# Altium schematic symbol library AD_Connectors.SchLib: 81 symbols
Pins are listed as number, name and electrical type; pins without a type are passive.

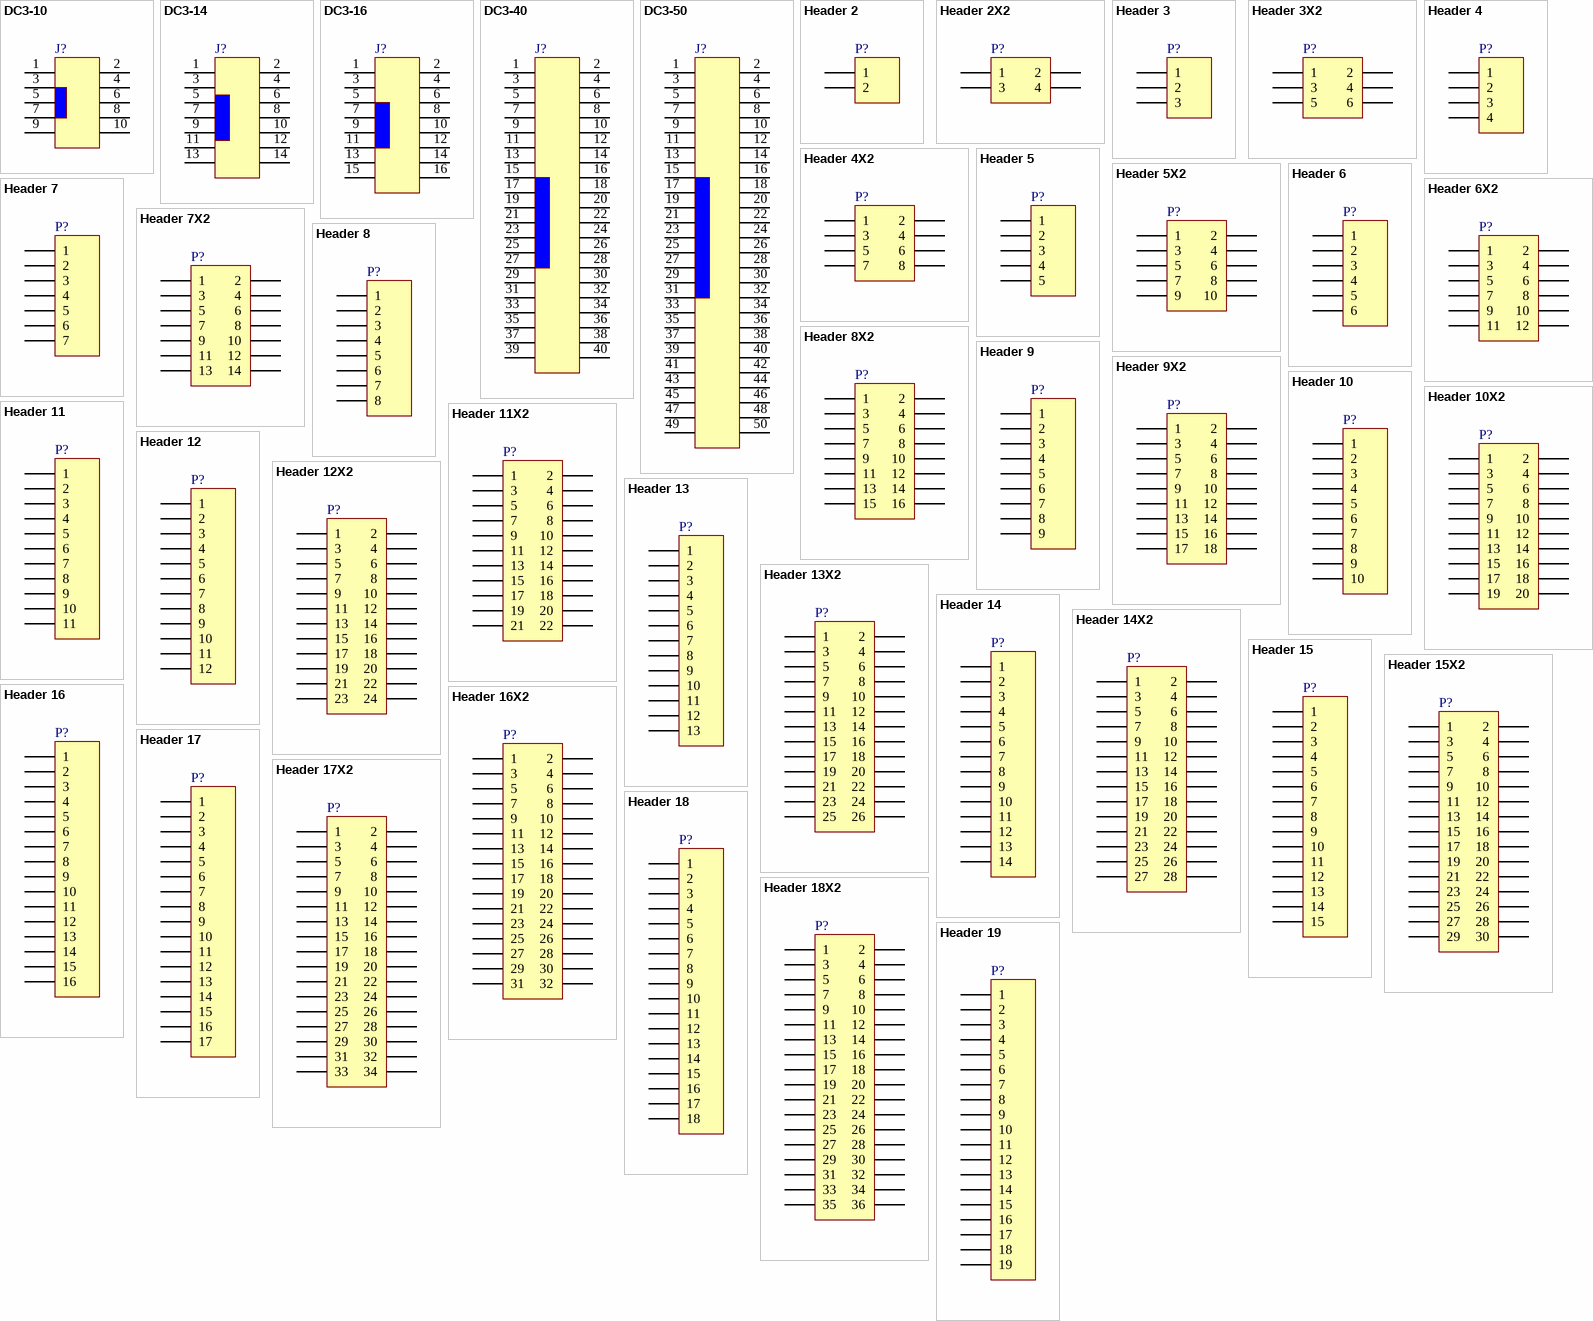
[diagram p0: symbols DC3-10 to Header 19]

## DC3-10
designator J?
简易牛角座, 10pins
footprint DC3-2.54-10 (简易牛角座, DIP, pitch 2.54, 10pins)
pins: 1, 2, 3, 4, 5, 6, 7, 8, 9, 10

## DC3-14
designator J?
简易牛角座, 14pins
footprint DC3-2.54-14 (简易牛角座, DIP, pitch 2.54, 14pins)
pins: 1, 2, 3, 4, 5, 6, 7, 8, 9, 10, 11, 12, 13, 14

## DC3-16
designator J?
简易牛角座, 16pins
footprint DC3-2.54-16 (简易牛角座, DIP, pitch 2.54, 16pins)
pins: 1, 2, 3, 4, 5, 6, 7, 8, 9, 10, 11, 12, 13, 14, 15, 16

## DC3-40
designator J?
简易牛角座, 40pins
footprint DC3-2.54-40 (简易牛角座, DIP, pitch 2.54, 40pins)
pins: 1, 2, 3, 4, 5, 6, 7, 8, 9, 10, 11, 12, 13, 14, 15, 16, 17, 18, 19, 20, 21, 22, 23, 24, 25, 26, 27, 28, 29, 30, 31, 32, 33, 34, 35, 36, 37, 38, 39, 40

## DC3-50
designator J?
简易牛角座, 50pins
footprint DC3-2.54-50 (简易牛角座, DIP, pitch 2.54, 50pins)
pins: 1, 2, 3, 4, 5, 6, 7, 8, 9, 10, 11, 12, 13, 14, 15, 16, 17, 18, 19, 20, 21, 22, 23, 24, 25, 26, 27, 28, 29, 30, 31, 32, 33, 34, 35, 36, 37, 38, 39, 40, 41, 42, 43, 44, 45, 46, 47, 48, 49, 50

## Header 2
designator P?
Header, 2-Pin; LatestRevisionDate: 17-Jul-2002; LatestRevisionNote: Re-released for DXP Platform.; Publisher: Altium Limited
footprint HDR1X2 (Connector; Header; 2 Position)
pins: 1, 2

## Header 2X2
designator P?
Header, 2-Pin, Dual row; LatestRevisionDate: 17-Jul-2002; LatestRevisionNote: Re-released for DXP Platform.; Publisher: Altium Limited
footprint HDR2X2 (Connector; Header; 2x2 Position)
pins: 1, 2, 3, 4

## Header 3
designator P?
Header, 3-Pin; LatestRevisionDate: 17-Jul-2002; LatestRevisionNote: Re-released for DXP Platform.; Publisher: Altium Limited
footprint HDR1X3 (Connector; Header; 3 Position)
pins: 1, 2, 3

## Header 3X2
designator P?
Header, 3-Pin, Dual row; LatestRevisionDate: 17-Jul-2002; LatestRevisionNote: Re-released for DXP Platform.; Publisher: Altium Limited
footprint HDR2X3 (Connector; Header; 3x2 Position)
pins: 1, 2, 3, 4, 5, 6

## Header 4
designator P?
Header, 4-Pin; LatestRevisionDate: 17-Jul-2002; LatestRevisionNote: Re-released for DXP Platform.; Publisher: Altium Limited
footprint HDR1X4 (Connector; Header; 4 Position)
pins: 1, 2, 3, 4

## Header 4X2
designator P?
Header, 4-Pin, Dual row; LatestRevisionDate: 17-Jul-2002; LatestRevisionNote: Re-released for DXP Platform.; Publisher: Altium Limited
footprint HDR2X4 (Connector; Header; 4x2 Position)
pins: 1, 2, 3, 4, 5, 6, 7, 8

## Header 5
designator P?
Header, 5-Pin; LatestRevisionDate: 17-Jul-2002; LatestRevisionNote: Re-released for DXP Platform.; Publisher: Altium Limited
footprint HDR1X5 (Connector; Header; 5 Position)
pins: 1, 2, 3, 4, 5

## Header 5X2
designator P?
Header, 5-Pin, Dual row; LatestRevisionDate: 17-Jul-2002; LatestRevisionNote: Re-released for DXP Platform.; Publisher: Altium Limited
footprint HDR2X5 (Connector; Header; 5x2 Position)
pins: 1, 2, 3, 4, 5, 6, 7, 8, 9, 10

## Header 6
designator P?
Header, 6-Pin; LatestRevisionDate: 17-Jul-2002; LatestRevisionNote: Re-released for DXP Platform.; Publisher: Altium Limited
footprint HDR1X6 (Connector; Header; 6 Position)
pins: 1, 2, 3, 4, 5, 6

## Header 6X2
designator P?
Header, 6-Pin, Dual row; LatestRevisionDate: 17-Jul-2002; LatestRevisionNote: Re-released for DXP Platform.; Publisher: Altium Limited
footprint HDR2X6 (Connector; Header; 6x2 Position)
pins: 1, 2, 3, 4, 5, 6, 7, 8, 9, 10, 11, 12

## Header 7
designator P?
Header, 7-Pin; LatestRevisionDate: 17-Jul-2002; LatestRevisionNote: Re-released for DXP Platform.; Publisher: Altium Limited
footprint HDR1X7 (Connector; Header; 7 Position)
pins: 1, 2, 3, 4, 5, 6, 7

## Header 7X2
designator P?
Header, 7-Pin, Dual row; LatestRevisionDate: 17-Jul-2002; LatestRevisionNote: Re-released for DXP Platform.; Publisher: Altium Limited
footprint HDR2X7 (Connector; Header; 7x2 Position)
pins: 1, 2, 3, 4, 5, 6, 7, 8, 9, 10, 11, 12, 13, 14

## Header 8
designator P?
Header, 8-Pin; LatestRevisionDate: 17-Jul-2002; LatestRevisionNote: Re-released for DXP Platform.; Publisher: Altium Limited
footprint HDR1X8 (Connector; Header; 8 Position)
pins: 1, 2, 3, 4, 5, 6, 7, 8

## Header 8X2
designator P?
Header, 8-Pin, Dual row; LatestRevisionDate: 17-Jul-2002; LatestRevisionNote: Re-released for DXP Platform.; Publisher: Altium Limited
footprint HDR2X8 (Connector; Header; 8x2 Position)
pins: 1, 2, 3, 4, 5, 6, 7, 8, 9, 10, 11, 12, 13, 14, 15, 16

## Header 9
designator P?
Header, 9-Pin; LatestRevisionDate: 17-Jul-2002; LatestRevisionNote: Re-released for DXP Platform.; Publisher: Altium Limited
footprint HDR1X9 (Connector; Header; 9 Position)
pins: 1, 2, 3, 4, 5, 6, 7, 8, 9

## Header 9X2
designator P?
Header, 9-Pin, Dual row; LatestRevisionDate: 17-Jul-2002; LatestRevisionNote: Re-released for DXP Platform.; Publisher: Altium Limited
footprint HDR2X9 (Connector; Header; 9x2 Position)
pins: 1, 2, 3, 4, 5, 6, 7, 8, 9, 10, 11, 12, 13, 14, 15, 16, 17, 18

## Header 10
designator P?
Header, 10-Pin; LatestRevisionDate: 17-Jul-2002; LatestRevisionNote: Re-released for DXP Platform.; Publisher: Altium Limited
footprint HDR1X10 (Connector; Header; 10 Position)
pins: 1, 2, 3, 4, 5, 6, 7, 8, 9, 10

## Header 10X2
designator P?
Header, 10-Pin, Dual row; LatestRevisionDate: 17-Jul-2002; LatestRevisionNote: Re-released for DXP Platform.; Publisher: Altium Limited
footprint HDR2X10 (Connector; Header; 10x2 Position)
pins: 1, 2, 3, 4, 5, 6, 7, 8, 9, 10, 11, 12, 13, 14, 15, 16, 17, 18, 19, 20

## Header 11
designator P?
Header, 11-Pin; LatestRevisionDate: 17-Jul-2002; LatestRevisionNote: Re-released for DXP Platform.; Publisher: Altium Limited
footprint HDR1X11 (Connector; Header; 11 Position)
pins: 1, 2, 3, 4, 5, 6, 7, 8, 9, 10, 11

## Header 11X2
designator P?
Header, 11-Pin, Dual row; LatestRevisionDate: 17-Jul-2002; LatestRevisionNote: Re-released for DXP Platform.; Publisher: Altium Limited
footprint HDR2X11 (Connector; Header; 11x2 Position)
pins: 1, 2, 3, 4, 5, 6, 7, 8, 9, 10, 11, 12, 13, 14, 15, 16, 17, 18, 19, 20, 21, 22

## Header 12
designator P?
Header, 12-Pin; LatestRevisionDate: 17-Jul-2002; LatestRevisionNote: Re-released for DXP Platform.; Publisher: Altium Limited
footprint HDR1X12 (Connector; Header; 12 Position)
pins: 1, 2, 3, 4, 5, 6, 7, 8, 9, 10, 11, 12

## Header 12X2
designator P?
Header, 12-Pin, Dual row; LatestRevisionDate: 17-Jul-2002; LatestRevisionNote: Re-released for DXP Platform.; Publisher: Altium Limited
footprint HDR2X12 (Connector; Header; 12x2 Position)
pins: 1, 2, 3, 4, 5, 6, 7, 8, 9, 10, 11, 12, 13, 14, 15, 16, 17, 18, 19, 20, 21, 22, 23, 24

## Header 13
designator P?
Header, 13-Pin; LatestRevisionDate: 17-Jul-2002; LatestRevisionNote: Re-released for DXP Platform.; Publisher: Altium Limited
footprint HDR1X13 (Connector; Header; 13 Position)
pins: 1, 2, 3, 4, 5, 6, 7, 8, 9, 10, 11, 12, 13

## Header 13X2
designator P?
Header, 13-Pin, Dual row; LatestRevisionDate: 17-Jul-2002; LatestRevisionNote: Re-released for DXP Platform.; Publisher: Altium Limited
footprint HDR2X13 (Connector; Header; 13x2 Position)
pins: 1, 2, 3, 4, 5, 6, 7, 8, 9, 10, 11, 12, 13, 14, 15, 16, 17, 18, 19, 20, 21, 22, 23, 24, 25, 26

## Header 14
designator P?
Header, 14-Pin; LatestRevisionDate: 17-Jul-2002; LatestRevisionNote: Re-released for DXP Platform.; Publisher: Altium Limited
footprint HDR1X14 (Connector; Header; 14 Position)
pins: 1, 2, 3, 4, 5, 6, 7, 8, 9, 10, 11, 12, 13, 14

## Header 14X2
designator P?
Header, 14-Pin, Dual row; LatestRevisionDate: 17-Jul-2002; LatestRevisionNote: Re-released for DXP Platform.; Publisher: Altium Limited
footprint HDR2X14 (Connector; Header; 14x2 Position)
pins: 1, 2, 3, 4, 5, 6, 7, 8, 9, 10, 11, 12, 13, 14, 15, 16, 17, 18, 19, 20, 21, 22, 23, 24, 25, 26, 27, 28

## Header 15
designator P?
Header, 15-Pin; LatestRevisionDate: 17-Jul-2002; LatestRevisionNote: Re-released for DXP Platform.; Publisher: Altium Limited
footprint HDR1X15 (Connector; Header; 15 Position)
pins: 1, 2, 3, 4, 5, 6, 7, 8, 9, 10, 11, 12, 13, 14, 15

## Header 15X2
designator P?
Header, 15-Pin, Dual row; LatestRevisionDate: 17-Jul-2002; LatestRevisionNote: Re-released for DXP Platform.; Publisher: Altium Limited
footprint HDR2X15 (Connector; Header; 15x2 Position)
pins: 1, 2, 3, 4, 5, 6, 7, 8, 9, 10, 11, 12, 13, 14, 15, 16, 17, 18, 19, 20, 21, 22, 23, 24, 25, 26, 27, 28, 29, 30

## Header 16
designator P?
Header, 16-Pin; LatestRevisionDate: 17-Jul-2002; LatestRevisionNote: Re-released for DXP Platform.; Publisher: Altium Limited
footprint HDR1X16 (Connector; Header; 16 Position)
pins: 1, 2, 3, 4, 5, 6, 7, 8, 9, 10, 11, 12, 13, 14, 15, 16

## Header 16X2
designator P?
Header, 16-Pin, Dual row; LatestRevisionDate: 17-Jul-2002; LatestRevisionNote: Re-released for DXP Platform.; Publisher: Altium Limited
footprint HDR2X16 (Connector; Header; 16x2 Position)
pins: 1, 2, 3, 4, 5, 6, 7, 8, 9, 10, 11, 12, 13, 14, 15, 16, 17, 18, 19, 20, 21, 22, 23, 24, 25, 26, 27, 28, 29, 30, 31, 32

## Header 17
designator P?
Header, 17-Pin; LatestRevisionDate: 17-Jul-2002; LatestRevisionNote: Re-released for DXP Platform.; Publisher: Altium Limited
footprint HDR1X17 (Connector; Header; 17 Position)
pins: 1, 2, 3, 4, 5, 6, 7, 8, 9, 10, 11, 12, 13, 14, 15, 16, 17

## Header 17X2
designator P?
Header, 17-Pin, Dual row; LatestRevisionDate: 17-Jul-2002; LatestRevisionNote: Re-released for DXP Platform.; Publisher: Altium Limited
footprint HDR2X17 (Connector; Header; 17x2 Position)
pins: 1, 2, 3, 4, 5, 6, 7, 8, 9, 10, 11, 12, 13, 14, 15, 16, 17, 18, 19, 20, 21, 22, 23, 24, 25, 26, 27, 28, 29, 30, 31, 32, 33, 34

## Header 18
designator P?
Header, 18-Pin; LatestRevisionDate: 17-Jul-2002; LatestRevisionNote: Re-released for DXP Platform.; Publisher: Altium Limited
footprint HDR1X18 (Connector; Header; 18 Position)
pins: 1, 2, 3, 4, 5, 6, 7, 8, 9, 10, 11, 12, 13, 14, 15, 16, 17, 18

## Header 18X2
designator P?
Header, 18-Pin, Dual row; LatestRevisionDate: 17-Jul-2002; LatestRevisionNote: Re-released for DXP Platform.; Publisher: Altium Limited
footprint HDR2X18 (Connector; Header; 18x2 Position)
pins: 1, 2, 3, 4, 5, 6, 7, 8, 9, 10, 11, 12, 13, 14, 15, 16, 17, 18, 19, 20, 21, 22, 23, 24, 25, 26, 27, 28, 29, 30, 31, 32, 33, 34, 35, 36

## Header 19
designator P?
Header, 19-Pin; LatestRevisionDate: 17-Jul-2002; LatestRevisionNote: Re-released for DXP Platform.; Publisher: Altium Limited
footprint HDR1X19 (Connector; Header; 19 Position)
pins: 1, 2, 3, 4, 5, 6, 7, 8, 9, 10, 11, 12, 13, 14, 15, 16, 17, 18, 19

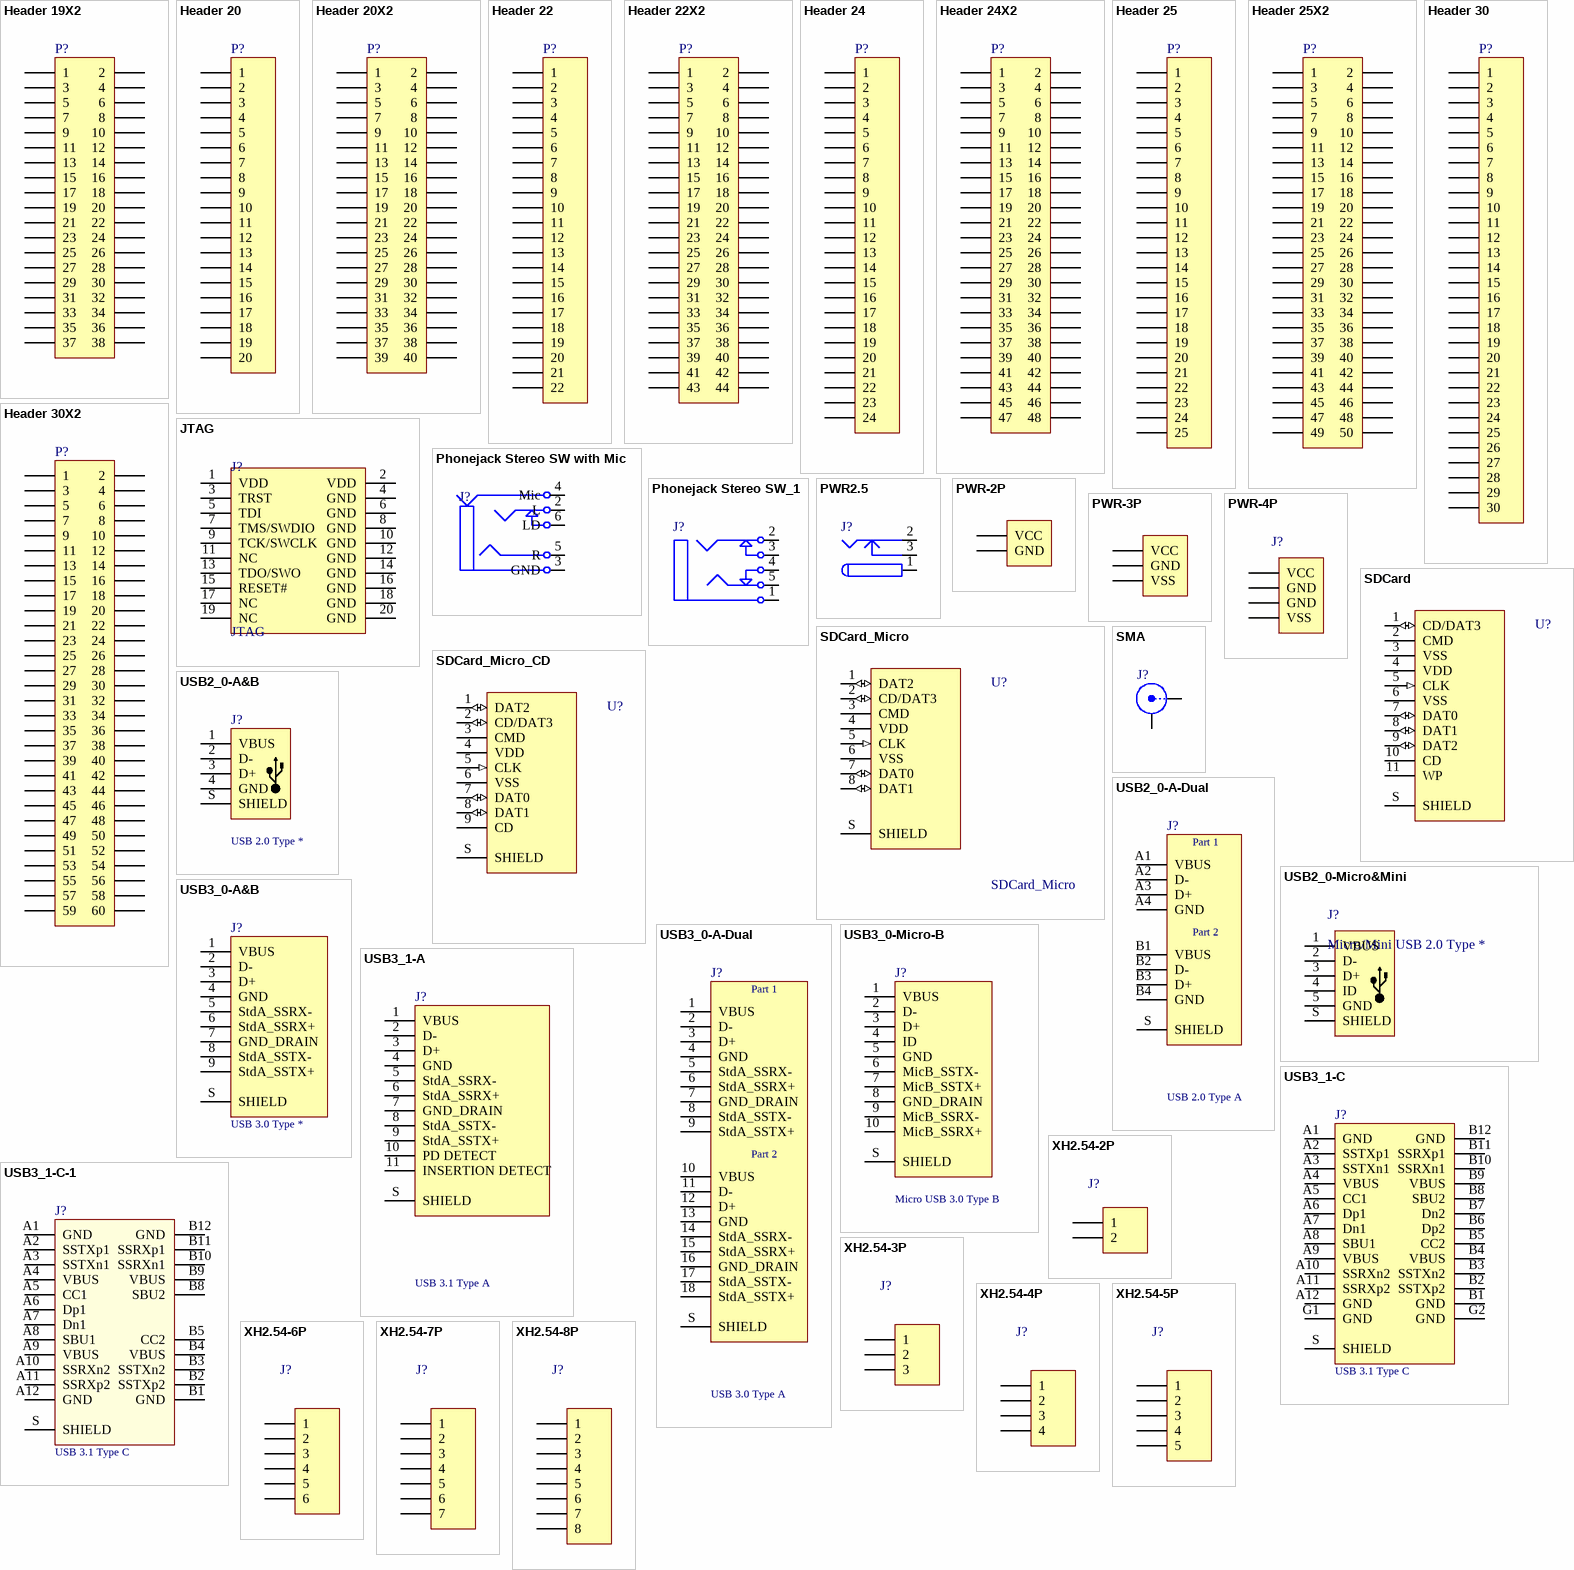
[diagram p1: symbols Header 19X2 to XH2.54-8P]

## Header 19X2
designator P?
Header, 19-Pin, Dual row; LatestRevisionDate: 17-Jul-2002; LatestRevisionNote: Re-released for DXP Platform.; Publisher: Altium Limited
footprint HDR2X19 (Connector; Header; 19x2 Position)
pins: 1, 2, 3, 4, 5, 6, 7, 8, 9, 10, 11, 12, 13, 14, 15, 16, 17, 18, 19, 20, 21, 22, 23, 24, 25, 26, 27, 28, 29, 30, 31, 32, 33, 34, 35, 36, 37, 38

## Header 20
designator P?
Header, 20-Pin; LatestRevisionDate: 17-Jul-2002; LatestRevisionNote: Re-released for DXP Platform.; Publisher: Altium Limited
footprint HDR1X20 (Connector; Header; 20 Position)
pins: 1, 2, 3, 4, 5, 6, 7, 8, 9, 10, 11, 12, 13, 14, 15, 16, 17, 18, 19, 20

## Header 20X2
designator P?
Header, 20-Pin, Dual row; LatestRevisionDate: 17-Jul-2002; LatestRevisionNote: Re-released for DXP Platform.; Publisher: Altium Limited
footprint HDR2X20 (Connector; Header; 20x2 Position)
pins: 1, 2, 3, 4, 5, 6, 7, 8, 9, 10, 11, 12, 13, 14, 15, 16, 17, 18, 19, 20, 21, 22, 23, 24, 25, 26, 27, 28, 29, 30, 31, 32, 33, 34, 35, 36, 37, 38, 39, 40

## Header 22
designator P?
Header, 22-Pin; LatestRevisionDate: 17-Jul-2002; LatestRevisionNote: Re-released for DXP Platform.; Publisher: Altium Limited
footprint HDR1X22 (Connector; Header; 22 Position)
pins: 1, 2, 3, 4, 5, 6, 7, 8, 9, 10, 11, 12, 13, 14, 15, 16, 17, 18, 19, 20, 21, 22

## Header 22X2
designator P?
Header, 22-Pin, Dual row; LatestRevisionDate: 17-Jul-2002; LatestRevisionNote: Re-released for DXP Platform.; Publisher: Altium Limited
footprint HDR2X22 (Connector; Header; 22x2 Position)
pins: 1, 2, 3, 4, 5, 6, 7, 8, 9, 10, 11, 12, 13, 14, 15, 16, 17, 18, 19, 20, 21, 22, 23, 24, 25, 26, 27, 28, 29, 30, 31, 32, 33, 34, 35, 36, 37, 38, 39, 40, 41, 42, 43, 44

## Header 24
designator P?
Header, 24-Pin; LatestRevisionDate: 17-Jul-2002; LatestRevisionNote: Re-released for DXP Platform.; Publisher: Altium Limited
footprint HDR1X24 (Connector; Header; 24 Position)
pins: 1, 2, 3, 4, 5, 6, 7, 8, 9, 10, 11, 12, 13, 14, 15, 16, 17, 18, 19, 20, 21, 22, 23, 24

## Header 24X2
designator P?
Header, 24-Pin, Dual row; LatestRevisionDate: 17-Jul-2002; LatestRevisionNote: Re-released for DXP Platform.; Publisher: Altium Limited
footprint HDR2X24 (Connector; Header; 24x2 Position)
pins: 1, 2, 3, 4, 5, 6, 7, 8, 9, 10, 11, 12, 13, 14, 15, 16, 17, 18, 19, 20, 21, 22, 23, 24, 25, 26, 27, 28, 29, 30, 31, 32, 33, 34, 35, 36, 37, 38, 39, 40, 41, 42, 43, 44, 45, 46, 47, 48

## Header 25
designator P?
Header, 25-Pin; LatestRevisionDate: 17-Jul-2002; LatestRevisionNote: Re-released for DXP Platform.; Publisher: Altium Limited
footprint HDR1X25 (Connector; Header; 25 Position)
pins: 1, 2, 3, 4, 5, 6, 7, 8, 9, 10, 11, 12, 13, 14, 15, 16, 17, 18, 19, 20, 21, 22, 23, 24, 25

## Header 25X2
designator P?
Header, 25-Pin, Dual row; LatestRevisionDate: 17-Jul-2002; LatestRevisionNote: Re-released for DXP Platform.; Publisher: Altium Limited
footprint HDR2X25 (Connector; Header; 25x2 Position)
pins: 1, 2, 3, 4, 5, 6, 7, 8, 9, 10, 11, 12, 13, 14, 15, 16, 17, 18, 19, 20, 21, 22, 23, 24, 25, 26, 27, 28, 29, 30, 31, 32, 33, 34, 35, 36, 37, 38, 39, 40, 41, 42, 43, 44, 45, 46, 47, 48, 49, 50

## Header 30
designator P?
Header, 30-Pin; LatestRevisionDate: 17-Jul-2002; LatestRevisionNote: Re-released for DXP Platform.; Publisher: Altium Limited
footprint HDR1X30 (Connector; Header; 30 Position)
pins: 1, 2, 3, 4, 5, 6, 7, 8, 9, 10, 11, 12, 13, 14, 15, 16, 17, 18, 19, 20, 21, 22, 23, 24, 25, 26, 27, 28, 29, 30

## Header 30X2
designator P?
Header, 30-Pin, Dual row; LatestRevisionDate: 17-Jul-2002; LatestRevisionNote: Re-released for DXP Platform.; Publisher: Altium Limited
footprint HDR2X30 (Connector; Header; 30x2 Position)
pins: 1, 2, 3, 4, 5, 6, 7, 8, 9, 10, 11, 12, 13, 14, 15, 16, 17, 18, 19, 20, 21, 22, 23, 24, 25, 26, 27, 28, 29, 30, 31, 32, 33, 34, 35, 36, 37, 38, 39, 40, 41, 42, 43, 44, 45, 46, 47, 48, 49, 50, 51, 52, 53, 54, 55, 56, 57, 58, 59, 60

## JTAG
designator J?
footprint DC3-2.54-20 (简易牛角座, DIP, pitch 2.54, 20pins)
pins: 1 VDD, 2 VDD, 3 TRST, 4 GND, 5 TDI, 6 GND, 7 TMS/SWDIO, 8 GND, 9 TCK/SWCLK, 10 GND, 11 NC, 12 GND, 13 TDO/SWO, 14 GND, 15 RESET#, 16 GND, 17 NC, 18 GND, 19 NC, 20 GND

## Phonejack Stereo SW with Mic
designator J?
4-Conductor Jack with 1 break contacts; Published: 5-Jan-2004; LatestRevisionDate: 17-Dec-2003; LatestRevisionNote: PCB Footprint replaced.; DatasheetDocument: 07-Mar-2000; Publisher: Altium Limited; ComponentLink1Description: Manufacturer Link; ComponentLink1URL: http://domino.kycon.com/internet/Products.html
footprint PJ-327A (Connector; Stereo Jack with Mic, 3.5mm, 5 Position)
pins: 2 L "L Audio", 3 GND, 4 Mic "L Audio", 5 R "R Audio", 6 LD "L Detect"

## Phonejack Stereo SW_1
designator J?
3-Conductor Jack with 2 break contacts (normals) and 2 auxiliary make contacts; Published: 5-Jan-2004; LatestRevisionDate: 17-Dec-2003; LatestRevisionNote: PCB Footprint replaced.; DatasheetDocument: 07-Mar-2000; Publisher: Altium Limited; ComponentLink1Description: Manufacturer Link; ComponentLink1URL: http://domino.kycon.com/internet/Products.html
footprint PJ-307
footprint PJ-325 (Connector; Stereo Jack, 3.5mm, 5 Position)
pins: 1, 2 "L Audio", 3 "L Detect", 4 "R Detect", 5 2 "R Audio"

## PWR2.5
designator J?
Low Voltage Power Supply Connector; Published: 17-Dec-2003; DatasheetDocument: 09-May-2002; Publisher: Altium Limited; ComponentLink1Description: Manufacturer Link; ComponentLink1URL: http://domino.kycon.com/internet/Products.html
footprint DC-005 (DC Power Jack,  5.5*2.1mm, PCB Mount)
pins: 1 (power), 2 (power), 3 (power)

## PWR-2P
designator J?, comment Power-2P  (value not drawn)
供电端子
footprint XH2.54-2
footprint VH3.96-2
footprint KF128-5.08-2P (KF128, pitch 5.08mm, 2Pins, 300V, 10A (250V, 24A))
footprint KF301-5.08-2P (KF301, pitch 5.08mm, 2Pins, 300V, 16A (250V, 17A))
pins: 1 VCC (power), 2 GND (power)

## PWR-3P
designator J?, comment Power-3P  (value not drawn)
供电端子
footprint XH2.54-3
footprint VH3.96-3
footprint KF128-5.08-3P (KF128, pitch 5.08mm, 3Pins, 300V, 10A (250V, 24A))
footprint KF301-5.08-3P (KF301, pitch 5.08mm, 3Pins, 300V, 16A (250V, 17A))
pins: 1 VCC (power), 2 GND (power), 3 VSS (power)

## PWR-4P
designator J?  (value not drawn)
供电端子
footprint VH3.96-4
pins: 1 VCC (power), 2 GND (power), 3 GND (power), 4 VSS (power)

## SDCard
designator U?
SDCard
footprint SDCARD
pins: 1 CD/DAT3 (io), 2 CMD, 3 VSS (power), 4 VDD (power), 5 CLK (in), 6 VSS (power), 7 DAT0 (io), 8 DAT1 (io), 9 DAT2 (io), 10 CD, 11 WP, S SHIELD

## SDCard_Micro
designator U?
Micro SDCard without card detect, TF Card
footprint SDCard_Micro-FlipLock
pins: 1 DAT2 (io), 2 CD/DAT3 (io), 3 CMD (power), 4 VDD (power), 5 CLK (in), 6 VSS (power), 7 DAT0 (io), 8 DAT1 (io), S SHIELD

## SDCard_Micro_CD
designator U?
Micro SDCard with vard detect, TF Card
footprint SDCard_Micro-Push (Micro SD Card, TF Card)
pins: 1 DAT2 (io), 2 CD/DAT3 (io), 3 CMD (power), 4 VDD (power), 5 CLK (in), 6 VSS (power), 7 DAT0 (io), 8 DAT1 (io), 9 CD, S SHIELD

## SMA
designator J?
SMA Connector; LatestRevisionDate: 17-Jul-2002; LatestRevisionNote: Re-released for DXP Platform.; Publisher: Altium Limited
footprint SMA_Edge (SMA PCB Edge Mount)
footprint SMA_Edge* (SMA PCB Edge Mount)
footprint SMA_RightAngle (SMA PCB Mount Right Angle)
footprint SMA_Straight (SMA PCB Mount Straight)
pins: 1 X, 2 Y

## USB2_0-A&B
designator J?, comment USB 2.0 Type *
USB 2.0 Type A and Type B; Part Number: 61400413321; Interface Type: USB 2.0 Type B; Rated Current: 1.5 A; Gender: Female; ComponentLink1Description: Manufacturer; ComponentLink1URL: http://www.we-online.de; ComponentLink2Description: Datasheet; ComponentLink2URL: http://katalog.we-online.de/em/datasheet/61400413321.pdf; Published Date: May 2018; Publisher: Wurth Elektronik; Orientation: Vertical; Operating Temperature: -40 to 105 degC; Mounting Technology: THT; Packaging: Tray
footprint USB2_0_A_SMT-THIN (USB 2.0 Type A Horizontal SMT with pegs)
footprint USB2_0_A_SMT-Short (USB 2.0 Type A Horizontal SMT Short Type)
footprint USB2_0_A_SMT (USB 2.0 SMT Type A Horizontal)
footprint USB2_0_A_DIP-THT (USB 2.0 Type A Horizontal THT)
footprint USB2_0_A_DIP-THR (USB Type A Horizontal THR)
footprint USB2_0_A_DIP (USB 2.0 Type A Horizontal)
footprint USB2_0_A_DIP-THT-Short (USB 2.0 Type A Horizontal THT Short Type)
footprint USB2_0_A_DIP-THT-Slim (USB 2.0 THT Type A Horizontal Slim Type)
footprint USB2_0_A_Up_Right (USB 2.0 Type A Up Right)
footprint USB2_0_A_Up_Right-THT (USB 2.0 Type A Up Right THT)
footprint USB2_0_A_Vertical (USB 2.0 Type A Vertical)
footprint USB2_0_A_Vertical-THR (USB Type A Vertical THR)
footprint USB2_0_A_Vertical-THT (USB 2.0 Type A Vertical Short Type THT)
footprint USB2_0_B_SMT (USB 2.0 Type B SMT Horizontal)
footprint USB2_0_B_DIP (USB 2.0 Type B Horizontal)
footprint USB2_0_B_Vertical (USB 2.0 Type B Vertical)
footprint USB2_0_B_DIP-THR (USB Type B Horizontal THR)
footprint USB2_0_Plug_ SMT (USB 2.0 Plug Type A SMT with Clip)
pins: 1 VBUS, 2 D-, 3 D+, 4 GND, S SHIELD

## USB2_0-A-Dual
designator J?, comment USB 2.0 Type A
USB 2.0 Type A Dual; Part Number: 61400826021; Rated Current: 1.5 A; Gender: Female; ComponentLink1Description: Manufacturer; ComponentLink1URL: http://www.we-online.de; ComponentLink2Description: Datasheet; ComponentLink2URL: http://katalog.we-online.de/em/datasheet/61400826021.pdf; Published Date: May 2018; Publisher: Wurth Elektronik; Orientation: Horizontal; Interface Type: USB 2.0 Type A; Operating Temperature: -40 to 105 degC; Mounting Technology: THT; Packaging: Tray
footprint USB2_0_A_Dual_DIP (USB 2.0 Type A Horizontal Dual Stacked)
footprint USB2_0_A_Dual_Vertical (USB 2.0 Type A Vertical Dual)
pins: A1 VBUS, A2 D-, A3 D+, A4 GND, B1 VBUS, B2 D-, B3 D+, B4 GND, S SHIELD
text: Part 1; Part 2

## USB2_0-Micro&Mini
designator J?, comment Micro/Mini USB 2.0 Type *
Micro and Mini USB 2.0 (Type A and Type A/B)
footprint Micro_USB2_0_B_SMT_DIP2-Pegs (Micro USB 2.0 Type B Horizontal SMT 2DIP with Pegs)
footprint Micro_USB2_0_B_SMT_1 (Micro USB 2.0 SMT Type B Horizontal 5 Contacts)
footprint Micro_USB2_0_B_SMT_DIP2 (Micro USB 2.0 Type B Horizontal SMT 2DIP with Pegs)
footprint Micro_USB2_0_B_SMT_2 (Micro USB 2.0 SMT Type B Horizontal 5 Contacts)
footprint Micro_USB2_0_B_SMT (Micro USB 2.0 SMT Type B Horizontal 5 Contacts)
footprint Micro_USB2_0_B_SMT_DIP4 (Micro USB 2.0 Type B Horizontal SMT 4DIP)
footprint Micro_USB2_0_B_Mid_Mount_DIP (Micro USB 2.0 Type B Mid Mount DIP)
footprint Micro_USB2_0_AB_SMT_DIP4 (Micro USB 2.0 Type AB Horizontal 4DIP)
footprint Micro_USB2_0_AB_Vertical (Micro USB 2.0 Type AB Vertical 5 Contacts)
footprint Micro_USB2_0_B_Vertical (Micro USB 2.0 Type B Vertical 5 Contacts)
footprint Micro_USB2_0_B_SMT_DIP4_H (Micro USB 2.0 SMT Type B Horizontal 5 Contacts High Current)
footprint Micro_USB2_0_B_SMT_3 (Micro USB 2.0 SMT Type B Horizontal 5 Contacts with pegs)
footprint Micro_USB2_0_B_SMT_DIP2_1 (Micro USB 2.0 Type B Horizontal SMT 2DIP)
footprint Mini_USB2_0_B_SMT (Mini USB 2.0 Type B SMT Horizontal 5 Contacts)
footprint Mini_USB2_0_B_Vertical (Mini USB 2.0 Type B Vertical 5 Contacts)
footprint Mini_USB2_0_AB_SMT (Mini USB 2.0 Type AB SMT Horizontal 5 Contacts)
pins: 1 VBUS, 2 D-, 3 D+, 4 ID, 5 GND, S SHIELD

## USB3_0-A&B
designator J?, comment USB 3.0 Type *
USB 3.0 Type A and Type B; Part Number: 692112030100; Rated Current: 0.25 A; Gender: Male; ComponentLink1Description: Manufacturer; ComponentLink1URL: http://www.we-online.de; ComponentLink2Description: Datasheet; ComponentLink2URL: http://katalog.we-online.de/em/datasheet/692112030100.pdf; Published Date: May 2018; Publisher: Wurth Elektronik; Orientation: Horizontal; Interface Type: USB 3.0 Type A; Operating Temperature: -20 to 85 degC; Mounting Technology: SMT; Packaging: Tray
footprint USB3_0_A_SMT (USB 3.0 Type A Horizontal SMD)
footprint USB3_0_A_DIP (USB 3.0 Type A Horizontal)
footprint USB3_0_A_Vertical (USB 3.0 Type A Vertical THT)
footprint USB3_0_A_Mid_Mount_0_14 (USB 3.0 Type A Reverse Horizontal with Offset 0.14mm)
footprint USB3_0_A_Mid_Mount_1_04 (USB 3.0 Type A Horizontal with Offset 1.04mm)
footprint USB3_0_A_Mid_Mount_1_75 (USB 3.0 Type A Reverse Horizontal with Offset 1.75mm)
footprint USB3_0_B_DIP (USB 3.0 Type B Horizontal)
footprint USB3_0_A_Plug_SMT (USB 3.0 Type A SMT Plug with Clip)
pins: 1 VBUS, 2 D-, 3 D+, 4 GND, 5 StdA_SSRX-, 6 StdA_SSRX+, 7 GND_DRAIN, 8 StdA_SSTX-, 9 StdA_SSTX+, S SHIELD

## USB3_0-A-Dual
designator J?, comment USB 3.0 Type A
USB 3.0 Type A Dual Horizontal THT WR-COM; Part Number: 692141030100; Rated Current: 0.25 A; Gender: Female; ComponentLink1Description: Manufacturer; ComponentLink1URL: http://www.we-online.de; ComponentLink2Description: Datasheet; ComponentLink2URL: http://katalog.we-online.de/em/datasheet/692141030100.pdf; Published Date: May 2018; Publisher: Wurth Elektronik; Orientation: Horizontal; Interface Type: USB 3.0 Type A; Operating Temperature: -40 to 85 degC; Mounting Technology: THT; Packaging: Tray
footprint USB3_0_A_Dual_DIP (USB 3.0 Type A Stacked)
pins: 1 VBUS, 2 D-, 3 D+, 4 GND, 5 StdA_SSRX-, 6 StdA_SSRX+, 7 GND_DRAIN, 8 StdA_SSTX-, 9 StdA_SSTX+, 10 VBUS, 11 D-, 12 D+, 13 GND, 14 StdA_SSRX-, 15 StdA_SSRX+, 16 GND_DRAIN, 17 StdA_SSTX-, 18 StdA_SSTX+, S SHIELD
text: Part 1; Part 2

## USB3_0-Micro-B
designator J?, comment Micro USB 3.0 Type B
Micro USB 3.0 Type B Vertical SMT WR-COM; Part Number: 692622420101; Rated Current: 1.8 A; Gender: Female; ComponentLink1Description: Manufacturer; ComponentLink1URL: http://www.we-online.de; ComponentLink2Description: Datasheet; ComponentLink2URL: http://katalog.we-online.de/em/datasheet/692622420101.pdf; Published Date: May 2018; Publisher: Wurth Elektronik; Orientation: Vertical; Interface Type: Micro USB 3.0 Type B; Operating Temperature: -30 to 85 degC; Mounting Technology: SMT; Packaging: Tape and Reel
footprint Micro_USB3_0_B_SMT (Micro USB 3.0 Type B Horizontal SMT)
footprint Micro_USB3_0_B_Vertical_SMT (Micro USB 3.0 Type B Vertical SMT)
pins: 1 VBUS, 2 D-, 3 D+, 4 ID, 5 GND, 6 MicB_SSTX-, 7 MicB_SSTX+, 8 GND_DRAIN, 9 MicB_SSRX-, 10 MicB_SSRX+, S SHIELD

## USB3_1-A
designator J?, comment USB 3.1 Type A
USB 3.1 Type A Receptacle Horizontal THT Power Delivery WR-COM; Part Number: 632121300001; Rated Current: 5 A; Gender: Female; ComponentLink1Description: Manufacturer; ComponentLink1URL: http://www.we-online.de; ComponentLink2Description: Datasheet; ComponentLink2URL: http://katalog.we-online.de/em/datasheet/632121300001.pdf; Published Date: May 2018; Publisher: Wurth Elektronik; Orientation: Horizontal; Interface Type: USB 3.1 Type A; Operating Temperature: -20 to 85 degC; Mounting Technology: THT; Packaging: Tray
footprint USB3_1_A_DIP-THT (USB 3.1 Type A Receptacle Horizontal THT Power Delivery)
pins: 1 VBUS, 2 D-, 3 D+, 4 GND, 5 StdA_SSRX-, 6 StdA_SSRX+, 7 GND_DRAIN, 8 StdA_SSTX-, 9 StdA_SSTX+, 10 PD DETECT, 11 INSERTION DETECT, S SHIELD

## USB3_1-C
designator J?, comment USB 3.1 Type C
USB 3.1 Type C Receptacle Horizontal THR WR-COM; Part Number: 632723100011; Rated Current: 5 A; Gender: Female Plug; ComponentLink1Description: Manufacturer; ComponentLink1URL: http://www.we-online.de; ComponentLink2Description: Datasheet; ComponentLink2URL: http://katalog.we-online.de/em/datasheet/632723x00011.pdf; Published Date: May 2018; Publisher: Wurth Elektronik; Orientation: Horizontal; Interface Type: USB 3.1 Type C; Operating Temperature: -25 to 105 degC; Mounting Technology: THR; Packaging: Tape and Reel with Cap
footprint USB3_1_C_SMT-THR (USB 3.1 Type C Receptacle Horizontal THR)
pins: A1 GND, A2 SSTXp1, A3 SSTXn1, A4 VBUS, A5 CC1, A6 Dp1, A7 Dn1, A8 SBU1, A9 VBUS, A10 SSRXn2, A11 SSRXp2, A12 GND, B1 GND, B2 SSTXp2, B3 SSTXn2, B4 VBUS, B5 CC2, B6 Dp2, B7 Dn2, B8 SBU2, B9 VBUS, B10 SSRXn1, B11 SSRXp1, B12 GND, G1 GND, G2 GND, S SHIELD

## USB3_1-C-1
designator J?, comment USB 3.1 Type C
USB 3.1 Type C Plug Horizontal SMT WR-COM; Part Number: 632712000011; Rated Current: 5 A; Gender: Male Plug; ComponentLink1Description: Manufacturer; ComponentLink1URL: http://www.we-online.de; ComponentLink2Description: Datasheet; ComponentLink2URL: http://katalog.we-online.de/em/datasheet/632712000011.pdf; Published Date: May 2018; Publisher: Wurth Elektronik; Orientation: Horizontal; Interface Type: USB 3.1 Type C; Operating Temperature: -25 to 105 degC; Mounting Technology: SMT; Packaging: Tape and Reel with Cap
footprint USB3_1_C_Plug_SMT (USB 3.1 Type C Plug Horizontal SMT)
pins: A1 GND, A2 SSTXp1, A3 SSTXn1, A4 VBUS, A5 CC1, A6 Dp1, A7 Dn1, A8 SBU1, A9 VBUS, A10 SSRXn2, A11 SSRXp2, A12 GND, B1 GND, B2 SSTXp2, B3 SSTXn2, B4 VBUS, B5 CC2, B8 SBU2, B9 VBUS, B10 SSRXn1, B11 SSRXp1, B12 GND, S SHIELD

## XH2.54-2P
designator J?  (value not drawn)
通用连接端子
footprint XH2.54-2
pins: 1, 2

## XH2.54-3P
designator J?  (value not drawn)
通用连接端子
footprint XH2.54-3
pins: 1, 2, 3

## XH2.54-4P
designator J?  (value not drawn)
通用连接端子
footprint XH2.54-4
footprint XH2.54-4-H
pins: 1, 2, 3, 4

## XH2.54-5P
designator J?  (value not drawn)
通用连接端子
footprint XH2.54-5
pins: 1, 2, 3, 4, 5

## XH2.54-6P
designator J?  (value not drawn)
通用连接端子
footprint XH2.54-6
pins: 1, 2, 3, 4, 5, 6

## XH2.54-7P
designator J?  (value not drawn)
通用连接端子
footprint XH2.54-7
pins: 1, 2, 3, 4, 5, 6, 7

## XH2.54-8P
designator J?  (value not drawn)
通用连接端子
footprint XH2.54-8
footprint XH2.54-8-H
pins: 1, 2, 3, 4, 5, 6, 7, 8

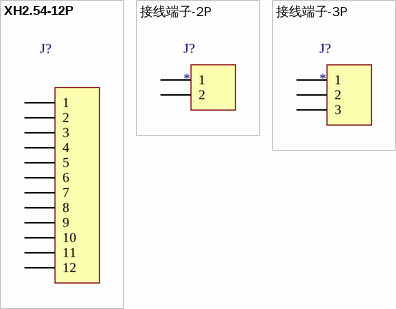
[diagram p2: symbols XH2.54-12P to 接线端子-3P]

## XH2.54-12P
designator J?  (value not drawn)
通用连接端子
footprint XH2.54-12
pins: 1, 2, 3, 4, 5, 6, 7, 8, 9, 10, 11, 12

## 接线端子-2P
designator J?
通用接线端子
footprint KF128-5.08-2P (KF128, pitch 5.08mm, 2Pins, 300V, 10A (250V, 24A))
footprint KF301-5.08-2P (KF301, pitch 5.08mm, 2Pins, 300V, 16A (250V, 17A))
pins: 1, 2

## 接线端子-3P
designator J?
通用接线端子
footprint KF128-5.08-3P (KF128, pitch 5.08mm, 3Pins, 300V, 10A (250V, 24A))
footprint KF301-5.08-3P (KF301, pitch 5.08mm, 3Pins, 300V, 16A (250V, 17A))
pins: 1, 2, 3